# EAGLE library part GAINSPAN1011MXX (library anykey)
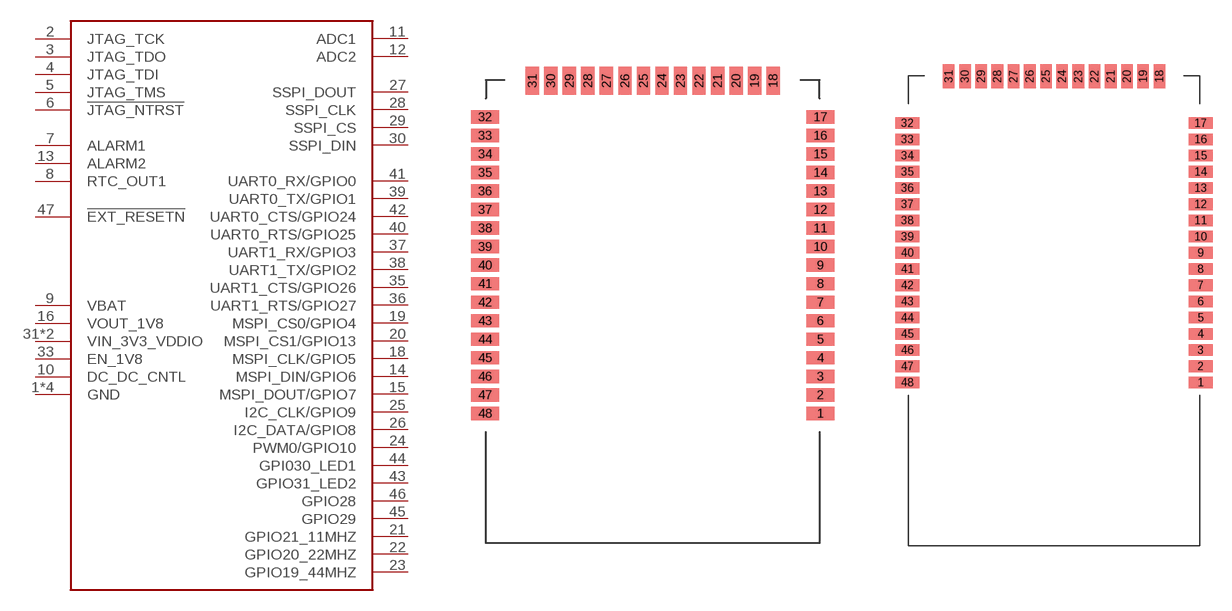
[diagram p17: symbol with the pads of GAINSPANMI; footprints GAINSPANMI, GAINSPANM]

Designator prefix -

## GAINSPAN1011MXXGS1011MIX  [GAINSPANMI]
1  GND
2  JTAG_TCK
3  JTAG_TDO
4  JTAG_TDI
5  JTAG_TMS
6  !JTAG_NTRST
7  ALARM1
8  RTC_OUT1
9  VBAT
10  DC_DC_CNTL
11  ADC1
12  ADC2
13  ALARM2
14  MSPI_DIN/GPIO6
15  MSPI_DOUT/GPIO7
16  VOUT_1V8
17  GND
18  MSPI_CLK/GPIO5
19  MSPI_CS0/GPIO4
20  MSPI_CS1/GPIO13
21  GPIO21_11MHZ
22  GPIO20_22MHZ
23  GPIO19_44MHZ
24  PWM0/GPIO10
25  I2C_CLK/GPIO9
26  I2C_DATA/GPIO8
27  SSPI_DOUT
28  SSPI_CLK
29  SSPI_CS
30  SSPI_DIN
31  VIN_3V3_VDDIO
32  GND
33  EN_1V8
34  VIN_3V3_VDDIO
35  UART1_CTS/GPIO26
36  UART1_RTS/GPIO27
37  UART1_RX/GPIO3
38  UART1_TX/GPIO2
39  UART0_TX/GPIO1
40  UART0_RTS/GPIO25
41  UART0_RX/GPIO0
42  UART0_CTS/GPIO24
43  GPIO31_LED2
44  GPI030_LED1
45  GPIO29
46  GPIO28
47  !EXT_RESETN
48  GND

## GAINSPAN1011MXXGAINSPANMEXP  [GAINSPANM]
Pads as for GAINSPANMI

## Footprint GAINSPANMI (pad centres in mm)
smd 1.905 x 0.914: 1 11.493,-6.985; 2 11.493,-5.715; 3 11.493,-4.445; 4 11.493,-3.175; 5 11.493,-1.905; 6 11.493,-0.635; 7 11.493,0.635; 8 11.493,1.905; 9 11.493,3.175; 10 11.493,4.445; 11 11.493,5.715; 12 11.493,6.985; 13 11.493,8.255; 14 11.493,9.525; 15 11.493,10.795; 16 11.493,12.065; 17 11.493,13.335; 32 -11.493,13.335; 33 -11.493,12.065; 34 -11.493,10.795; 35 -11.493,9.525; 36 -11.493,8.255; 37 -11.493,6.985; 38 -11.493,5.715; 39 -11.493,4.445; 40 -11.493,3.175; 41 -11.493,1.905; 42 -11.493,0.635; 43 -11.493,-0.635; 44 -11.493,-1.905; 45 -11.493,-3.175; 46 -11.493,-4.445; 47 -11.493,-5.715; 48 -11.493,-6.985
smd 0.914 x 1.905: 18 8.255,15.812; 19 6.985,15.812; 20 5.715,15.812; 21 4.445,15.812; 22 3.175,15.812; 23 1.905,15.812; 24 0.635,15.812; 25 -0.635,15.812; 26 -1.905,15.812; 27 -3.175,15.812; 28 -4.445,15.812; 29 -5.715,15.812; 30 -6.985,15.812; 31 -8.255,15.812

## Footprint GAINSPANM (pad centres in mm)
smd 1.905 x 0.914: 1 11.493,-6.248; 2 11.493,-4.978; 3 11.493,-3.708; 4 11.493,-2.438; 5 11.493,-1.168; 6 11.493,0.102; 7 11.493,1.372; 8 11.493,2.642; 9 11.493,3.912; 10 11.493,5.182; 11 11.493,6.452; 12 11.493,7.722; 13 11.493,8.992; 14 11.493,10.262; 15 11.493,11.532; 16 11.493,12.802; 17 11.493,14.072; 32 -11.493,14.072; 33 -11.493,12.802; 34 -11.493,11.532; 35 -11.493,10.262; 36 -11.493,8.992; 37 -11.493,7.722; 38 -11.493,6.452; 39 -11.493,5.182; 40 -11.493,3.912; 41 -11.493,2.642; 42 -11.493,1.372; 43 -11.493,0.102; 44 -11.493,-1.168; 45 -11.493,-2.438; 46 -11.493,-3.708; 47 -11.493,-4.978; 48 -11.493,-6.248
smd 0.914 x 1.905: 18 8.255,17.742; 19 6.985,17.742; 20 5.715,17.742; 21 4.445,17.742; 22 3.175,17.742; 23 1.905,17.742; 24 0.635,17.742; 25 -0.635,17.742; 26 -1.905,17.742; 27 -3.175,17.742; 28 -4.445,17.742; 29 -5.715,17.742; 30 -6.985,17.742; 31 -8.255,17.742